# Altium footprint library Inductors.PcbLib: 45 footprints (part 2 of 3)
Each footprint in its own frame and in the unit in brackets; x right, y up, seen from the top. Pads: shape width x height; smd on the part's side, far side on the other; paste and mask are expansions set on the pad; w line width, h text height; cw(c..) or ccw(c..) is an arc to the next point about the centre after c.
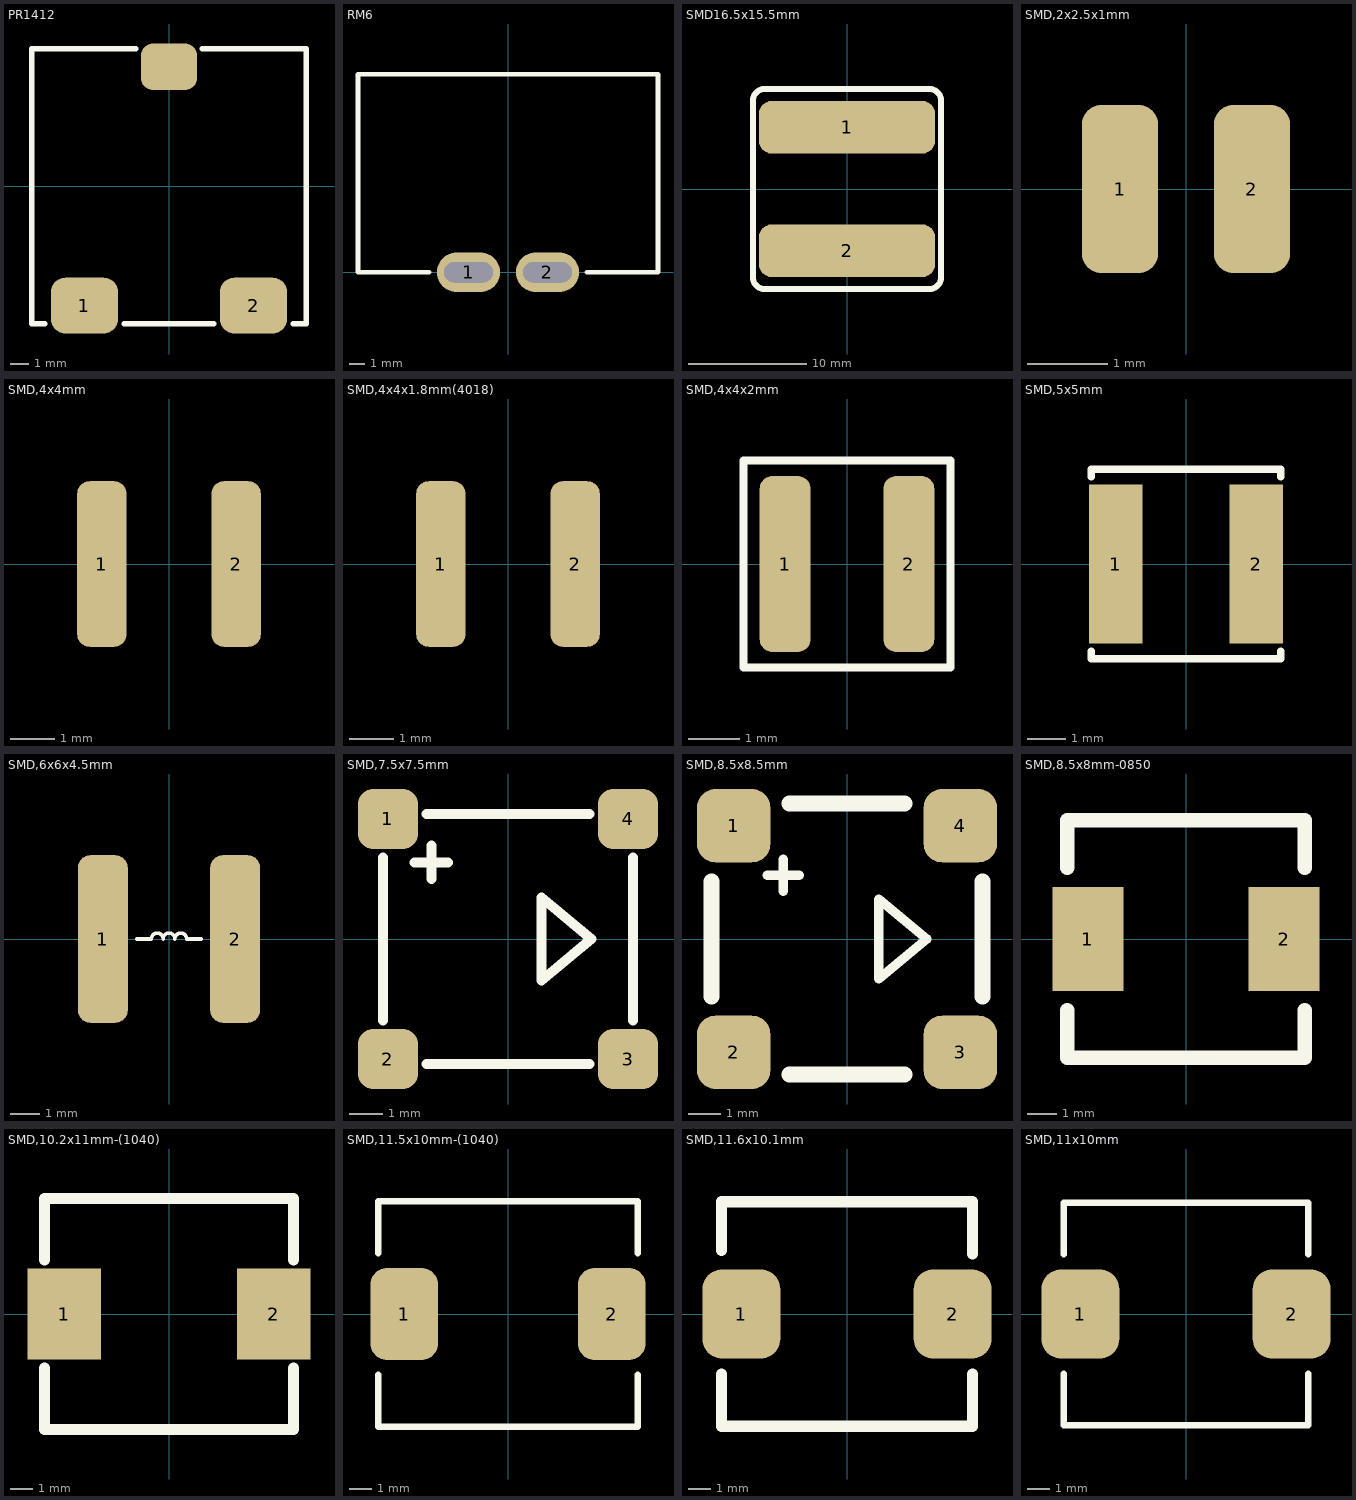
[diagram p1: the footprints below, top view; thin cyan lines are the x and y axes]

## PR1412 [mm]
pads (3):
  rrect50% 3.6x3 smd: 1(-4.55,-6.425) 2(4.55,-6.425)
  rrect50% 3x2.5 smd: ""(0,6.425)
Top Overlay:
  lines w0.3: -6.7,-7.4 -7.4,-7.4 -7.4,7.4 -1.8,7.4 ; -2.4,-7.4 2.4,-7.4 ; 1.8,7.4 7.4,7.4 7.4,-7.4 6.7,-7.4
3D body "SER1512-103MED[1].stp": height 11.9, standoff -0.1, extent -7.6,-7.7 7.6,7.7

## RM6 [mm]
pads (2):
  oval 4x2.5 hole 1.3 slot 3.1 at 0 deg: 1(-2.5,0) 2(2.5,0)
Top Overlay:
  lines w0.3: -5,0 -9.5,0 -9.5,12.55 9.5,12.55 9.5,0 5,0

## SMD16.5x15.5mm [mm]
pads (2):
  rrect50% 15x4.5 smd: 1(0,5.25) 2(0,-5.25)
Top Overlay:
  lines w0.5: -8,-7.5 ccw(c-7,-7.5) -7,-8.5 -5,-8.5 6.293,-8.5 7,-8.5 ccw(c7,-7.5) 8,-7.5 8,-6.793 8,7.5 ccw(c7,7.5) 7,8.5 -7,8.5 ccw(c-7,7.5) -8,7.5 -8,-7.5
3D body "IND_SRP1510CA_BRN.step": height 10.11, standoff 0.1, extent -7.899,-8.407 7.899,8.407

## SMD,2x2.5x1mm [mm]
pads (2):
  rrect50% 0.95x2.1 smd: 1(-0.825,0) 2(0.825,0)
3D body "MAKK2520T4R7M.step": height 1, standoff 0, extent -1.25,-1 1.25,1

## SMD,4x4mm [mm]
pads (2):
  rrect50% 1.1x3.7 smd: 1(-1.5,0) 2(1.5,0)
3D body "ASPI-4030S.STEP": height 3, standoff 0, extent -2,-2 2,2

## SMD,4x4x1.8mm(4018) [mm]
pads (2):
  rrect50% 1.1x3.7 smd: 1(-1.5,0) 2(1.5,0)
3D body "srn4018.stp": height 1.8, standoff 0, extent -2.2,-2 2.2,2

## SMD,4x4x2mm [mm]
pads (2):
  rrect50% 0.98x3.4 smd: 1(-1.195,0) 2(1.195,0)
Top Overlay:
  lines w0.15: -2,-2 -2,2 2,2 2,-2 -2,-2
3D body "XFL4020-222MEC--3DModel-STEP-269445.STEP": height 2.1, standoff 0, extent -2,-2 2,2

## SMD,5x5mm [mm]
pads (2):
  rect 1.4x4.2 smd: 1(-1.85,0) 2(1.85,0)
Top Overlay:
  lines w0.2: -2.5,-2.3 -2.5,-2.5 2.5,-2.5 2.5,-2.3 ; -2.5,2.3 -2.5,2.5 2.5,2.5 2.5,2.3
3D body "VLS5045EX-100M.step": height 4.5, standoff 0, extent -2.39,-2.447 2.39,2.5

## SMD,6x6x4.5mm [mm]
pads (2):
  rrect50% 1.7x5.7 smd: 1(-2.25,0) 2(2.25,0)
Top Overlay:
  lines w0.12: -1.1,0 -0.6,0 cw(c-0.4,0) -0.2,0 cw(c0,0) 0.2,0 cw(c0.4,0) 0.6,0 1.1,0
3D body "VLS6045EX-100M.STEP": height 4.5, standoff 0, extent -3,-3 3,3

## SMD,7.5x7.5mm [mm]
pads (4):
  rrect50% 1.8x1.8 smd: 1(-3.6,3.6) 2(-3.6,-3.6) 3(3.6,-3.6) 4(3.6,3.6)
Top Overlay:
  lines w0.3: -3.75,-2.45 -3.75,2.45 ; -2.8,2.3 -1.8,2.3 ; -2.45,-3.75 2.45,-3.75 ; -2.45,3.75 2.45,3.75 ; -2.3,1.8 -2.3,2.8 ; 3.75,-2.45 3.75,2.45 ; 1,-1.25 1,1.25 2.5,0 1,-1.25

## SMD,8.5x8.5mm [mm]
pads (4):
  rrect50% 2.3x2.3 smd: 1(-3.55,3.55) 2(-3.55,-3.55) 3(3.55,-3.55) 4(3.55,3.55)
Top Overlay:
  lines w0.3: -2.5,2 -1.5,2 ; -2,1.5 -2,2.5 ; 1,-1.25 1,1.25 2.5,0 1,-1.25
  lines w0.5: -4.25,-1.8 -4.25,1.8 ; -1.8,-4.25 1.8,-4.25 ; -1.8,4.25 1.8,4.25 ; 4.25,-1.8 4.25,1.8
3D body "User Library-Buzzer-8_5x8_5x3_0mm_4PIN.STEP": height 3, standoff 0, extent -4.35,-4.35 4.35,4.35

## SMD,8.5x8mm-0850 [mm]
pads (2):
  rect 2.4x3.5 smd: 1(-3.3,0) 2(3.3,0)
Top Overlay:
  lines w0.5: -4,-2.4 -4,-4 4,-4 4,-2.4 ; -4,2.4 -4,4 4,4 4,2.4
3D body "ETQP4M6R8KVK.step": height 4.09, standoff 0.09, extent -4.25,-4 4.25,4

## SMD,10.2x11mm-(1040) [mm]
pads (2):
  rect 3.25x4 smd: 1(-4.625,0) 2(4.625,0)
Top Overlay:
  lines w0.5: -5.5,-2.4 -5.5,-5.1 5.5,-5.1 5.5,-2.4 ; -5.5,2.4 -5.5,5.1 5.5,5.1 5.5,2.4
3D body "CIP1040.step": height 4.2, standoff 0, extent -5.65,-5 5.65,5

## SMD,11.5x10mm-(1040) [mm]
pads (2):
  rrect50% 3x4.1 smd: 1(-4.6,0) 2(4.6,0)
Top Overlay:
  lines w0.3: -5.75,-2.7 -5.75,-5 5.75,-5 5.75,-2.7 ; -5.75,2.7 -5.75,5 5.75,5 5.75,2.7
3D body "CIP1040.step": height 4.2, standoff 0, extent -5.65,-5 5.65,5

## SMD,11.6x10.1mm [mm]
pads (2):
  rrect50% 3.5x4 smd: 1(-4.75,0) 2(4.75,0)
Top Overlay:
  lines w0.5: -5.65,-5.05 5.65,-5.05 ; -5.65,-5 -5.65,-2.7 ; -5.65,2.85 -5.65,5.05 5.65,5.05 ; 5.65,-5 5.65,-2.7 ; 5.65,2.7 5.65,5
3D body "CIP1040.step": height 4.2, standoff 0, extent -5.65,-5 5.65,5

## SMD,11x10mm [mm]
pads (2):
  rrect50% 3.5x4 smd: 1(-4.75,0) 2(4.75,0)
Top Overlay:
  lines w0.3: -5.5,-2.7 -5.5,-5 5.5,-5 5.5,-2.7 ; -5.5,2.7 -5.5,5 5.5,5 5.5,2.7
3D body "PSPMAA1082T.stp": height 7.9, standoff -0.3, extent -5.5,-5 5.5,5